# Altium schematic symbol library mcp6050.SchLib: 1 symbol
Pins are listed as number, name and electrical type; pins without a type are passive.

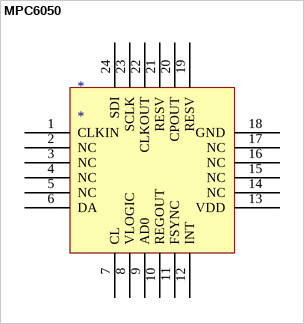
[diagram p0: symbol MPC6050]

## MPC6050
designator *
pins: 1 CLKIN, 2 NC, 3 NC, 4 NC, 5 NC, 6 DA, 7 CL, 8 VLOGIC, 9 AD0, 10 REGOUT, 11 FSYNC, 12 INT, 13 VDD, 14 NC, 15 NC, 16 NC, 17 NC, 18 GND, 19 RESV, 20 CPOUT, 21 RESV, 22 CLKOUT, 23 SCLK, 24 SDI